# Altium footprint library Eight_bit_v1.PcbLib: 19 footprints (part 2 of 2)
Each footprint in its own frame and in the unit in brackets; x right, y up, seen from the top. Pads: shape width x height; smd on the part's side, far side on the other; paste and mask are expansions set on the pad; w line width, h text height; cw(c..) or ccw(c..) is an arc to the next point about the centre after c.
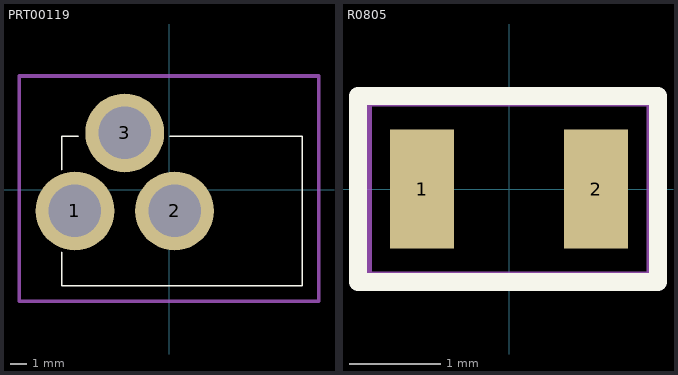
[diagram p1: the footprints below, top view; thin cyan lines are the x and y axes]

## PCBComponent_1 [mil]

## PRT00119 [mil]
pads (3):
  round 186.73 hole 124.5: 1(-222.99,-50.63) 2(13.23,-50.63) 3(-104.88,134.41)
Top Overlay:
  lines w3.94: -254.49,-149.06 -254.49,-227.8 316.38,-227.8 316.38,126.54 1.42,126.54 ; -254.49,47.8 -254.49,126.54 -215.12,126.54
Mechanical 15:
  lines w3.94: -355.75,-267.17 355.75,-267.17 355.75,267.17 -355.75,267.17 -355.75,-267.17
Mechanical 29:
  lines w7.87: -355,-265 355,-265 355,270 -355,270 -355,-265
  text ".Designator" at 0,0 h60
3D body "pj-057bh.stp": height 433.57, standoff -133.36, extent -255,-238.62 315.87,137.36

## R0805 [mm]
pads (2):
  rect 0.7x1.3 smd: 1(-0.95,0) 2(0.95,0)
Top Overlay:
  lines w0.2: -1.651,-1.016 1.626,-1.016 1.626,-0.742 1.626,1.016 -1.651,1.016 -1.651,0 -1.651,-1.016
Mechanical 29:
  lines w0.2: -1.6,-1 1.6,-1 1.6,1 -1.6,1 -1.6,-1
  text ".Designator" at -0.3,-0.1 h0.8
3D body "User Library-Chip Resistor2.step": height 0.71, standoff 0.01, extent -1,-0.6 1,0.6